# EAGLE library part ARDUINO (library fritzing)
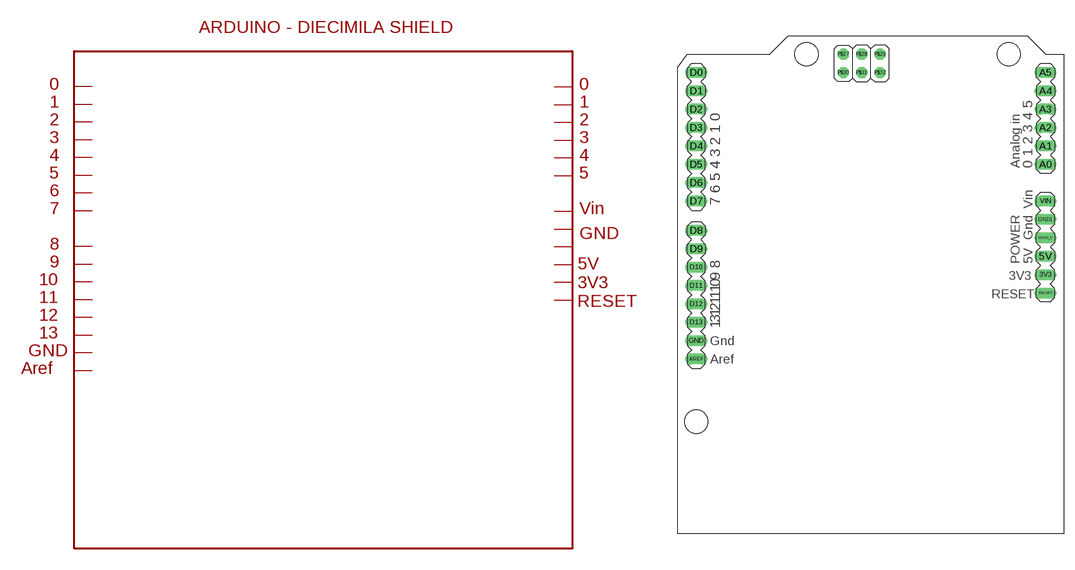
[diagram p1: symbol with the pads of ARDUINO; footprint ARDUINO]

Designator prefix -

## ARDUINO  [ARDUINO]
3V3  3V3
5V  5V  pwr
A0  A0
A1  A1
A2  A2
A3  A3
A4  A4
A5  A5
AREF  AREF
D0  D0
D1  D1
D2  D2
D3  D3
D4  D4
D5  D5
D6  D6
D7  D7
D8  D8
D9  D9
D10  D10
D11  D11
D12  D12
D13  D13
GND  GND_A  pwr
GND1  GND_B  pwr
GND_C  GND_C  pwr
RESET  RESET
VIN  VIN  pwr

## Footprint ARDUINO (pad centres in mm)
drill 1.016 long: 3V3 51.054,35.941; 5V 51.054,38.481; A0 51.054,51.181; A1 51.054,53.721; A2 51.054,56.261; A3 51.054,58.801; A4 51.054,61.341; A5 51.054,63.881; AREF 2.794,24.257; D0 2.794,63.881; D1 2.794,61.341; D2 2.794,58.801; D3 2.794,56.261; D4 2.794,53.721; D5 2.794,51.181; D6 2.794,48.641; D7 2.794,46.101; D8 2.794,42.037; D9 2.794,39.497; D10 2.794,36.957; D11 2.794,34.417; D12 2.794,31.877; D13 2.794,29.337; GND 2.794,26.797; GND1 51.054,43.561; GND_C 51.054,41.021; RESET 51.054,33.401; VIN 51.054,46.101
drill 1.016 octagon: P$27 23.114,66.421; P$28 25.654,66.421; P$29 28.194,66.421; P$30 23.114,63.881; P$31 25.654,63.881; P$32 28.194,63.881
hole 3.2 at 2.794,15.621
hole 3.2 at 45.974,66.421
hole 3.2 at 18.034,66.421